# Altium schematic symbol library C-C0603C475K9PACTU.Schlib: 1 symbol
Pins are listed as number, name and electrical type; pins without a type are passive.

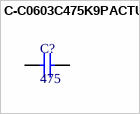
[diagram p0: symbol C-C0603C475K9PACTU]

## C-C0603C475K9PACTU
designator C?, comment 475
Multilayer Ceramic Capacitors MLCC - SMD/SMT 6.3volts 4.7uF X5R 10%
pins: 1, 2